# Altium schematic symbol library 2541FV-2x4P.SchLib: 1 symbol
Pins are listed as number, name and electrical type; pins without a type are passive.

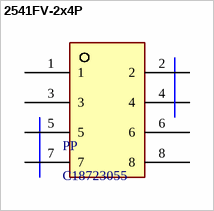
[diagram p0: symbol 2541FV-2x4P]

## 2541FV-2x4P
designator PP, comment C18723055
-40℃~+105℃ 2 2.54mm 2.54mm 2x4P 3A 8P Square Hole Through Hole Top Plugin,P=2.54mm Female Headers ROHS
footprint 2541FV-2×4P
pins: 1, 2, 3, 4, 5, 6, 7, 8